# EAGLE library part L6387ED (library Pollux)
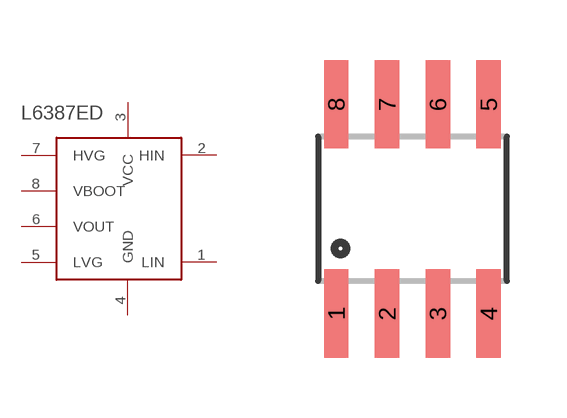
[diagram p1: symbol with the pads of SO08; footprint SO08]

Designator prefix -

## L6387ED  [SO08]
1  LIN
2  HIN
3  VCC
4  GND
5  LVG
6  VOUT
7  HVG
8  VBOOT

## Footprint SO08 (pad centres in mm)
Small Outline Package Fits JEDEC packages (narrow SOIC-8)
smd 0.61 x 2.21: 1 -1.905,-2.616; 2 -0.635,-2.616; 3 0.635,-2.616; 4 1.905,-2.616; 5 1.905,2.616; 6 0.635,2.616; 7 -0.635,2.616; 8 -1.905,2.616